# Altium footprint library LiyaoPCB库.PcbLib: 63 footprints (part 2 of 4)
Each footprint in its own frame and in the unit in brackets; x right, y up, seen from the top. Pads: shape width x height; smd on the part's side, far side on the other; paste and mask are expansions set on the pad; w line width, h text height; cw(c..) or ccw(c..) is an arc to the next point about the centre after c.
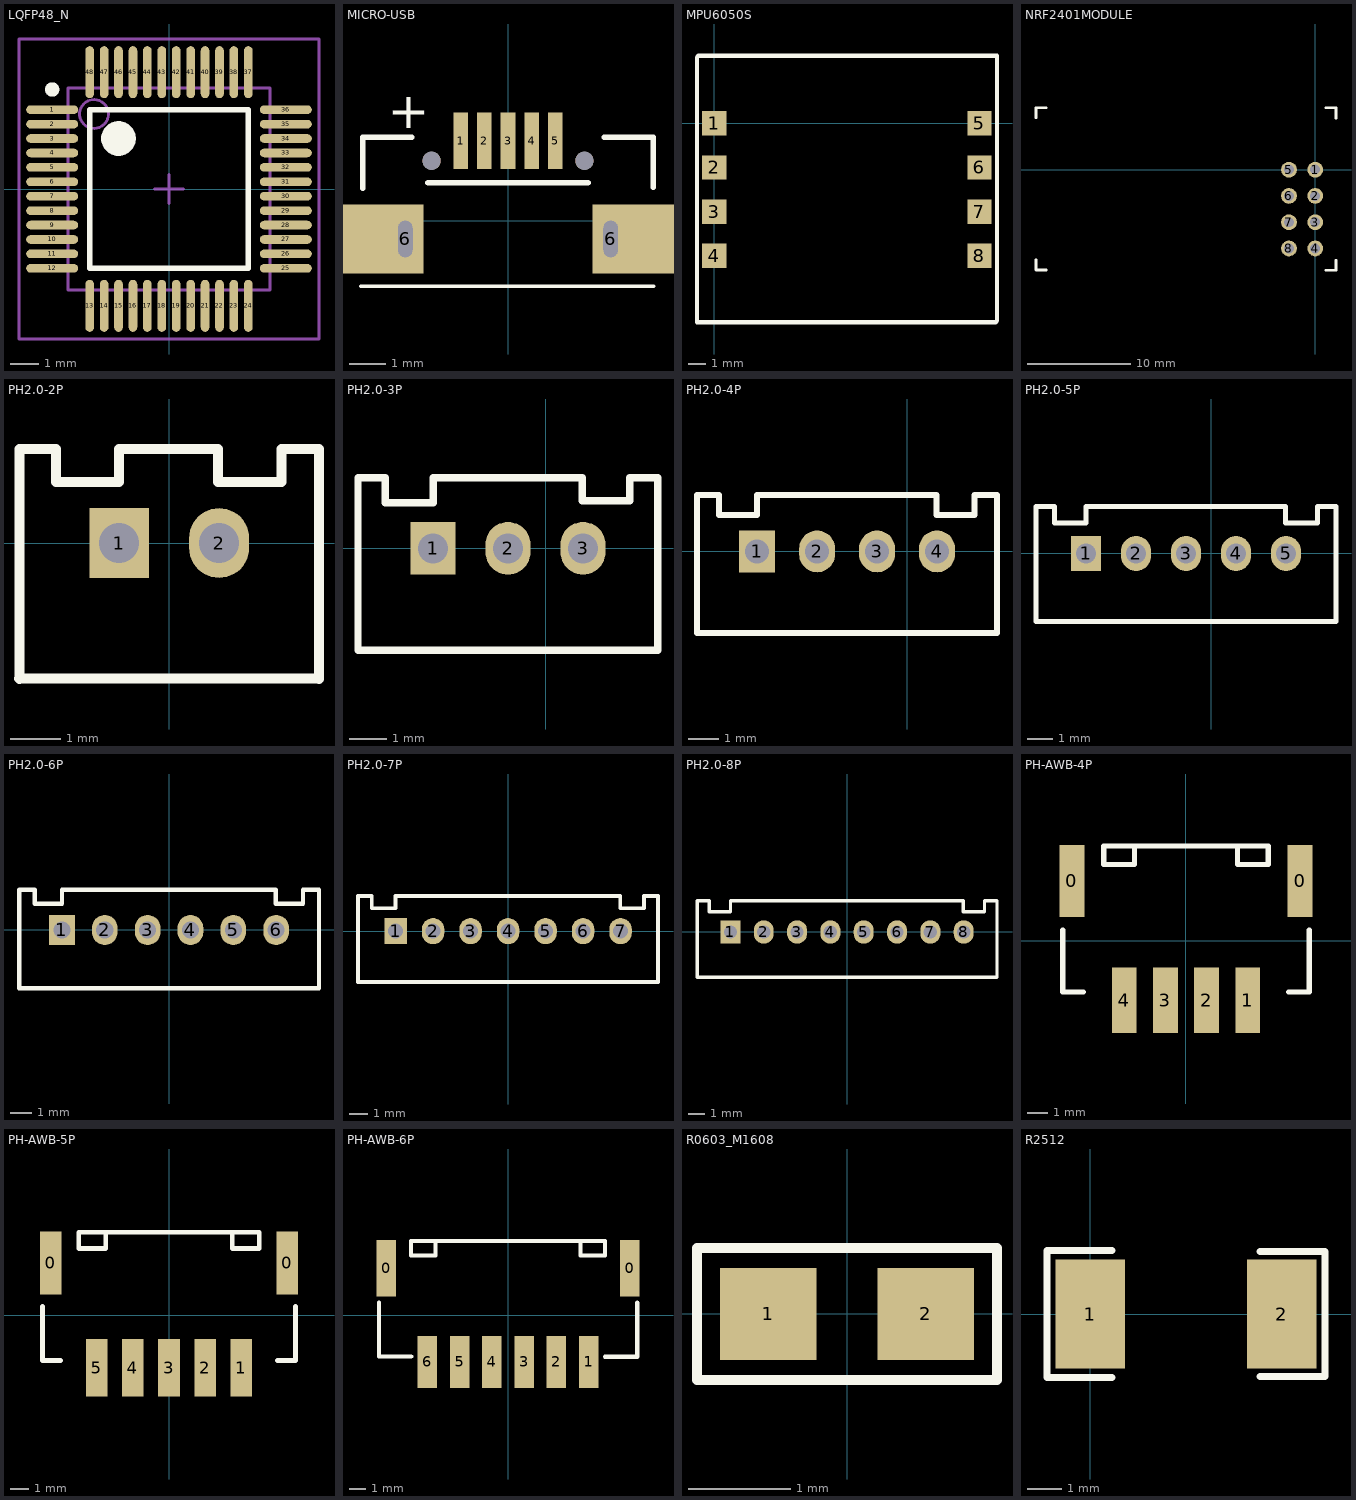
[diagram p1: the footprints below, top view; thin cyan lines are the x and y axes]

## LQFP48_N [mm]
pads (48):
  oval 1.8x0.3 smd: 1(-4.05,2.75) 2(-4.05,2.25) 3(-4.05,1.75) 4(-4.05,1.25) 5(-4.05,0.75) 6(-4.05,0.25) 7(-4.05,-0.25) 8(-4.05,-0.75) 9(-4.05,-1.25) 10(-4.05,-1.75) 11(-4.05,-2.25) 12(-4.05,-2.75) 25(4.05,-2.75) 26(4.05,-2.25) 27(4.05,-1.75) 28(4.05,-1.25) 29(4.05,-0.75) 30(4.05,-0.25) 31(4.05,0.25) 32(4.05,0.75) 33(4.05,1.25) 34(4.05,1.75) 35(4.05,2.25) 36(4.05,2.75)
  oval 0.3x1.8 smd: 13(-2.75,-4.05) 14(-2.25,-4.05) 15(-1.75,-4.05) 16(-1.25,-4.05) 17(-0.75,-4.05) 18(-0.25,-4.05) 19(0.25,-4.05) 20(0.75,-4.05) 21(1.25,-4.05) 22(1.75,-4.05) 23(2.25,-4.05) 24(2.75,-4.05) 37(2.75,4.05) 38(2.25,4.05) 39(1.75,4.05) 40(1.25,4.05) 41(0.75,4.05) 42(0.25,4.05) 43(-0.25,4.05) 44(-0.75,4.05) 45(-1.25,4.05) 46(-1.75,4.05) 47(-2.25,4.05) 48(-2.75,4.05)
Top Overlay:
  circle w0.6: c-1.75,1.75 r0.3
  circle w0.25: c-4.05,3.45 r0.125
  lines w0.2: -2.75,-2.75 2.75,-2.75 2.75,2.75 -2.75,2.75 -2.75,-2.75
Mechanical 13:
  circle w0.1: c-2.6,2.6 r0.5
  lines w0.1: -3.5,-3.5 3.5,-3.5 3.5,3.5 -3.5,3.5 -3.5,-3.5
Mechanical 15:
  lines w0.1: -0.5,0 0.5,0 ; 0,-0.5 0,0.5 ; -5.2,-5.2 5.2,-5.2 5.2,5.2 -5.2,5.2 -5.2,-5.2

## MICRO-USB [mm]
pads (9):
  rect 0.4x1.55 smd: 1(-1.3,2.2) 2(-0.65,2.2) 3(0,2.2) 4(0.65,2.2) 5(1.3,2.2)
  rect 2.6x1.9 hole 0.4 slot 1 at 90 deg copper offset -0.8,0: 6(-2.825,-0.5)
  rect 2.6x1.9 hole 0.4 slot 1 at 90 deg copper offset 0.8,0: 6(2.825,-0.5)
  round 0.5 hole 0.5 unplated: ""(-2.1,1.65) ""(2.1,1.65)
Top Overlay:
  lines w0.1: -4.05,-1.8 4,-1.8
  lines w0.152: -4,0.9 -4,2.3 -2.65,2.3 ; -2.2,1.05 2.2,1.05 ; 2.65,2.3 4,2.3 4,0.925
  text "+" at -3.3,2.55 h1
Keep-Out Layer:
  lines w0.127: -3.054,-1.043 -2.596,-1.043 -2.596,0.075 -3.054,0.075 -3.054,-1.043 ; 2.596,-1.043 3.054,-1.043 3.054,0.075 2.596,0.075 2.596,-1.043
Mechanical 1:
  lines w0.127: -3.054,-1.043 -3.054,0.075 -2.596,0.075 -2.596,-1.043 -3.054,-1.043 ; 2.596,-1.043 2.596,0.075 3.054,0.075 3.054,-1.043 2.596,-1.043

## MPU6050S [mm] "MPU6050融合卡尔曼模块"
pads (8):
  rect 1.4x1.4 smd: 1(0,0) 2(0,-2.54) 3(0,-5.08) 4(0,-7.62) 5(15.24,0) 6(15.24,-2.54) 7(15.24,-5.08) 8(15.24,-7.62)
Top Overlay:
  lines w0.254: -1,3.81 -1,-11.43 16.185,-11.43 ; -0.935,3.875 16.25,3.875 16.25,-11.365

## NRF2401MODULE [mil]
pads (8):
  round 60 hole 38: 1(0,0) 2(0,-100) 3(0,-200) 4(0,-300) 5(-100,0) 6(-100,-100) 7(-100,-200.31) 8(-100,-300)
Top Overlay:
  lines w10: -1062.99,-342.52 -1062.99,-381.89 -1023.88,-381.89 ; -1062.99,196.85 -1062.99,235.66 ; -1062.99,236.22 -1023.62,236.22 ; 39.42,236.22 78.09,236.22 78.86,235.45 78.86,195.43 ; 39.86,-383.68 78.53,-383.68 ; 79.09,-383.35 79.09,-344.68

## PH2.0-2P [mm]
height 0.65
pads (2):
  rect 1.2x1.4 hole 0.8: 1(-1,0)
  oval 1.2x1.4 hole 0.8: 2(1,0)
Top Overlay:
  lines w0.2: -3.007,-2.718 2.988,-2.718 ; -3,-2.72 -3,1.88 ; -2.981,1.88 -2.27,1.88 -2.27,1.219 -1,1.219 -1,1.88 ; -0.975,1.88 0.956,1.88 ; 0.981,1.88 0.981,1.219 2.251,1.219 2.251,1.88 2.988,1.88 ; 3,-2.72 3,1.88

## PH2.0-3P [mm]
pads (3):
  rect 1.2x1.4 hole 0.8: 1(-3,0)
  oval 1.2x1.4 hole 0.8: 2(-1,0) 3(1,0)
Top Overlay:
  lines w0.2: -5,1.88 -5,-2.718 3,-2.718 ; -4.981,1.88 -4.27,1.88 -4.27,1.219 -3,1.219 -3,1.88 ; -2.975,1.88 0.975,1.88 0.975,1.269 2.251,1.269 2.251,1.875 3,1.875 3,-2.67

## PH2.0-4P [mm]
pads (4):
  rect 1.2x1.4 hole 0.8: 1(-5,0)
  oval 1.2x1.4 hole 0.8: 2(-3,0) 3(-1,0) 4(1,0)
Top Overlay:
  lines w0.2: -7.007,-2.718 3,-2.718 ; -7,-2.72 -7,1.88 ; -6.981,1.88 -6.27,1.88 -6.27,1.219 -5,1.219 -5,1.88 ; -4.975,1.88 0.981,1.88 0.981,1.219 2.251,1.219 2.251,1.88 2.988,1.88 ; 3,-2.72 3,1.88

## PH2.0-5P [mm]
pads (5):
  rect 1.2x1.4 hole 0.8: 1(-5,0)
  oval 1.2x1.4 hole 0.8: 2(-3,0) 3(-1,0) 4(1,0) 5(3,0)
Top Overlay:
  lines w0.2: -7.007,-2.718 5,-2.718 ; -7,-2.72 -7,1.88 ; -6.981,1.88 -6.27,1.88 -6.27,1.219 -5,1.219 -5,1.88 ; -4.975,1.88 2.251,1.88 2.988,1.88 ; 2.981,1.88 2.981,1.219 4.251,1.219 4.251,1.88 4.988,1.88 ; 5,-2.72 5,1.88

## PH2.0-6P [mm]
pads (6):
  rect 1.2x1.4 hole 0.8: 1(-5,0)
  oval 1.2x1.4 hole 0.8: 2(-3,0) 3(-1,0) 4(1,0) 5(3,0) 6(5,0)
Top Overlay:
  lines w0.2: -7.007,-2.718 7,-2.718 ; -7,-2.72 -7,1.88 ; -6.981,1.88 -6.27,1.88 -6.27,1.219 -5,1.219 -5,1.88 ; -4.975,1.88 4.981,1.88 4.981,1.219 6.251,1.219 6.251,1.88 6.988,1.88 ; 7,-2.72 7,1.88

## PH2.0-7P [mm]
pads (7):
  rect 1.2x1.4 hole 0.8: 1(-6,0)
  oval 1.2x1.4 hole 0.8: 2(-4,0) 3(-2,0) 4(0,0) 5(2,0) 6(4,0) 7(6,0)
Top Overlay:
  lines w0.2: -8.007,-2.718 8,-2.718 ; -8,-2.72 -8,1.88 ; -7.981,1.88 -7.27,1.88 -7.27,1.219 -6,1.219 -6,1.88 ; -5.975,1.88 5.981,1.88 5.981,1.219 7.251,1.219 7.251,1.88 7.988,1.88 ; 8,-2.72 8,1.88

## PH2.0-8P [mm]
pads (8):
  rect 1.2x1.4 hole 0.8: 1(-7,0)
  oval 1.2x1.4 hole 0.8: 2(-5,0) 3(-3,0) 4(-1,0) 5(1,0) 6(3,0) 7(5,0) 8(7,0)
Top Overlay:
  lines w0.2: -9.007,-2.718 9,-2.718 ; -9,-2.72 -9,1.88 ; -8.981,1.88 -8.27,1.88 -8.27,1.219 -7,1.219 -7,1.88 ; -6.975,1.88 6.981,1.88 6.981,1.219 8.251,1.219 8.251,1.88 8.988,1.88 ; 9,-2.72 9,1.88

## PH-AWB-4P [mm]
height 6
pads (6):
  rect 1.2x3.5 smd: 0(-5.55,2.9) 0(5.55,2.9)
  rect 1.2x3.2 smd: 1(3,-2.9) 2(1,-2.9) 3(-1,-2.9) 4(-3,-2.9)
Top Overlay:
  lines w0.254: -6,0.5 -6,-2.5 -5,-2.5 ; -2.5,4.6 -2.5,3.7 -4,3.7 -4,4.6 4,4.6 4,3.7 2.5,3.7 2.5,4.6 ; 5,-2.5 6,-2.5 6,0.5

## PH-AWB-5P [mm]
height 6
pads (7):
  rect 1.2x3.5 smd: 0(-6.55,2.9) 0(6.55,2.9)
  rect 1.2x3.2 smd: 1(4,-2.9) 2(2,-2.9) 3(0,-2.9) 4(-2,-2.9) 5(-4,-2.9)
Top Overlay:
  lines w0.254: -7,0.5 -7,-2.5 -6,-2.5 ; -3.5,4.6 -3.5,3.7 -5,3.7 -5,4.6 5,4.6 5,3.7 3.5,3.7 3.5,4.6 ; 6,-2.5 7,-2.5 7,0.5

## PH-AWB-6P [mm]
height 6
pads (8):
  rect 1.2x3.5 smd: 0(-7.55,2.9) 0(7.55,2.9)
  rect 1.2x3.2 smd: 1(5,-2.9) 2(3,-2.9) 3(1,-2.9) 4(-1,-2.9) 5(-3,-2.9) 6(-5,-2.9)
Top Overlay:
  lines w0.254: -8,0.8 -8,-2.55 -6,-2.55 ; -4.484,4.6 -4.484,3.7 -6.008,3.7 -6.008,4.6 6.012,4.6 6.012,3.7 4.488,3.7 4.488,4.6 ; 6.013,-2.575 8.013,-2.575 8.013,0.775

## R0603_M1608 [mm] "Chip Capacitor, 2-Leads, Body 1.6x0.8mm, IPC Medium Density"
height 0.55
pads (2):
  rect 0.95x0.9 smd: 1(-0.775,0) 2(0.775,0)
Top Overlay:
  lines w0.1: -1.475,-0.65 -1.475,0.65 1.475,0.65 1.475,-0.65 -1.475,-0.65

## R2512 [mil]
pads (2):
  rect 80x125 smd: 1(0,0) 2(220,0)
Top Overlay:
  lines w8: 25,-72.83 -50,-72.83 -50,72.83 25,72.83 ; 195,-71.85 270,-71.85 270,71.85 195,71.85